# EAGLE library part ARE10A12 (library Relay)
RELAY RF SPDT 500MA 12V Manufacturer's datasheet <https://www3.panasonic.biz/ac/e/control/relay/device-hi/re/size_figure/index.jsp>
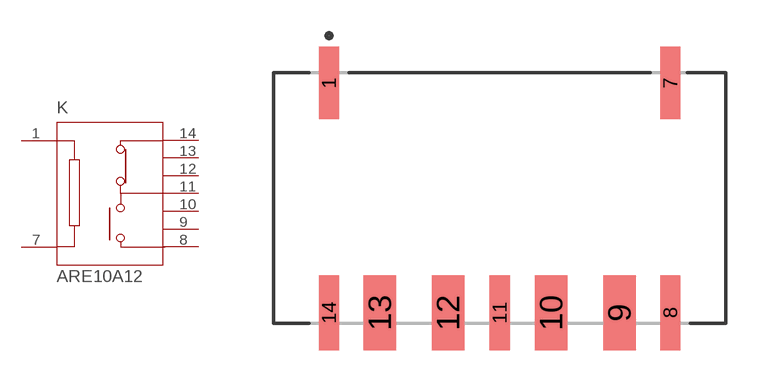
[diagram p9: symbol with the pads of ARE10A12; footprint ARE10A12]

Designator prefix K

## ARE10A12 (CREATED_BY: PCBLayout.com; DIGIKEY_PARTNO: 255-4258-5-ND; MANUFACTURER: Panasonic Electric Works; MPN: ARE10A12)  [ARE10A12]
1  1  pas
7  7  pas
8  8  pas
9  9  pas
10  10  pas
11  11  pas
12  12  pas
13  13  pas
14  14  pas

## Footprint ARE10A12 (pad centres in mm)
smd 0.9 x 3.24: 1 -7.62,5.13; 7 7.62,5.13
smd 0.9 x 3.34: 8 7.62,-5.13; 11 0,-5.13; 14 -7.62,-5.13
smd 1.44 x 3.34: 9 5.35,-5.13; 10 2.3,-5.13; 12 -2.3,-5.13; 13 -5.35,-5.13